# EAGLE library part SCHA9B0101 (library scha9b0101)
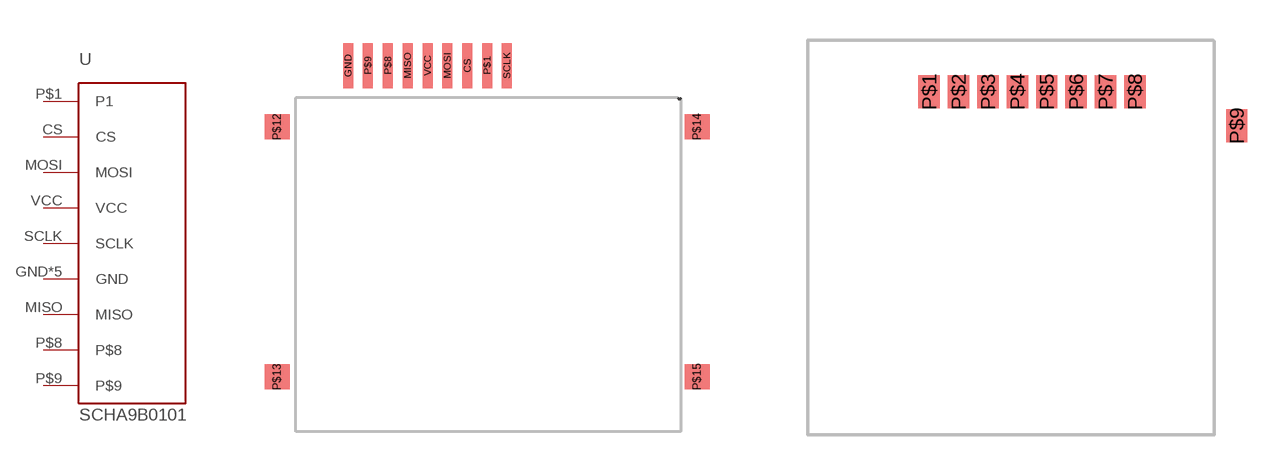
[diagram p0: symbol with the pads of SMD; footprints SMD, SMD-MOLEX]

Designator prefix -

## SCHA9B0101  [SMD]
CS  CS
GND  GND
MISO  MISO
MOSI  MOSI
P$1  P1
P$8  P$8
P$9  P$9
P$12  GND
P$13  GND
P$14  GND
P$15  GND
SCLK  SCLK
VCC  VCC

## SCHA9B0101MOLEX  [SMD-MOLEX]
P$1  P$8
P$2  CS
P$3  MOSI
P$4  VCC
P$5  SCLK
P$6  GND
P$7  MISO
P$8  P1
P$9  P$9

## Footprint SMD (pad centres in mm)
smd 0.4 x 1.8: CS -0.79,0; GND -5.56,0; MISO -3.18,0; MOSI -1.59,0; P$1 0,0; P$8 -3.97,0; P$9 -4.77,0; SCLK 0.79,0; VCC -2.38,0
smd 1 x 1: P$12 -8.4,-2.45; P$13 -8.4,-12.45; P$14 8.4,-2.45; P$15 8.4,-12.45

## Footprint SMD-MOLEX (pad centres in mm)
smd 0.8 x 1.24: P$1 -6.9,2; P$2 -5.8,2; P$3 -4.7,2; P$4 -3.6,2; P$5 -2.5,2; P$6 -1.4,2; P$7 -0.3,2; P$8 0.8,2; P$9 4.61,0.73